# EAGLE library part 74LS01N (library EW_IC_74_Logic)
digital n-input nand gate. Category: Gates Manufacturer: Generic
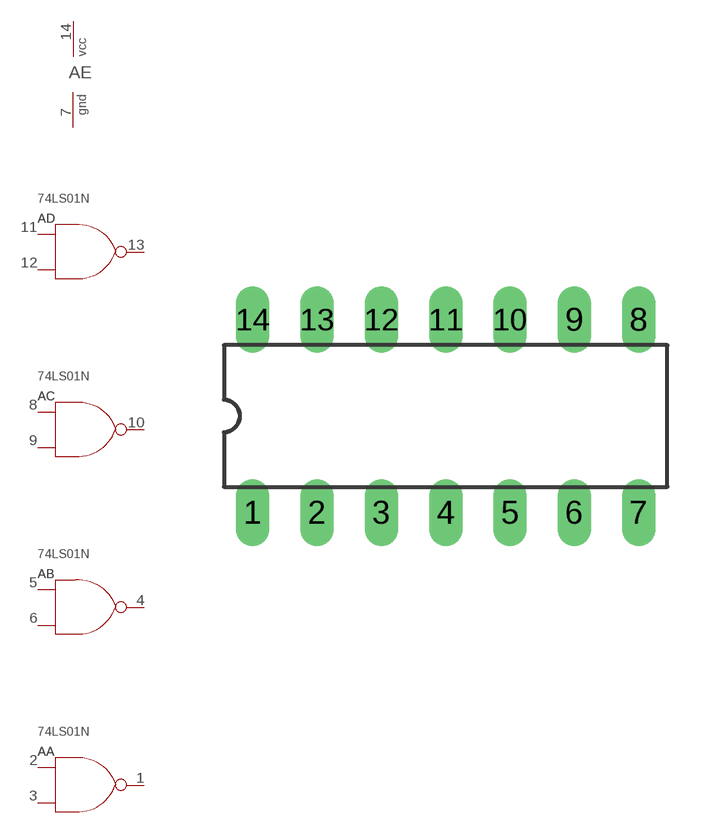
[diagram p182: symbol with the pads of DIL14; footprint DIL14]

Designator prefix A; gates A=NAND_2 B=NAND_2 C=NAND_2 D=NAND_2 E=PWRN

## 74LS01N  [DIL14]
1  A:Y  pwr
2  A:A  pwr
3  A:B  pwr
4  B:Y  pwr
5  B:A  pwr
6  B:B  pwr
7  E:GND  pwr
8  C:A  pwr
9  C:B  pwr
10  C:Y  pwr
11  D:A  pwr
12  D:B  pwr
13  D:Y  pwr
14  E:VCC  pwr

## Footprint DIL14 (pad centres in mm)
SOCKET Dual In Line
drill 0.813 long: 1 -7.62,-3.81; 2 -5.08,-3.81; 3 -2.54,-3.81; 4 0,-3.81; 5 2.54,-3.81; 6 5.08,-3.81; 7 7.62,-3.81; 8 7.62,3.81; 9 5.08,3.81; 10 2.54,3.81; 11 0,3.81; 12 -2.54,3.81; 13 -5.08,3.81; 14 -7.62,3.81